# Altium schematic symbol library DDS1.SchLib: 161 symbols (part 2 of 2)
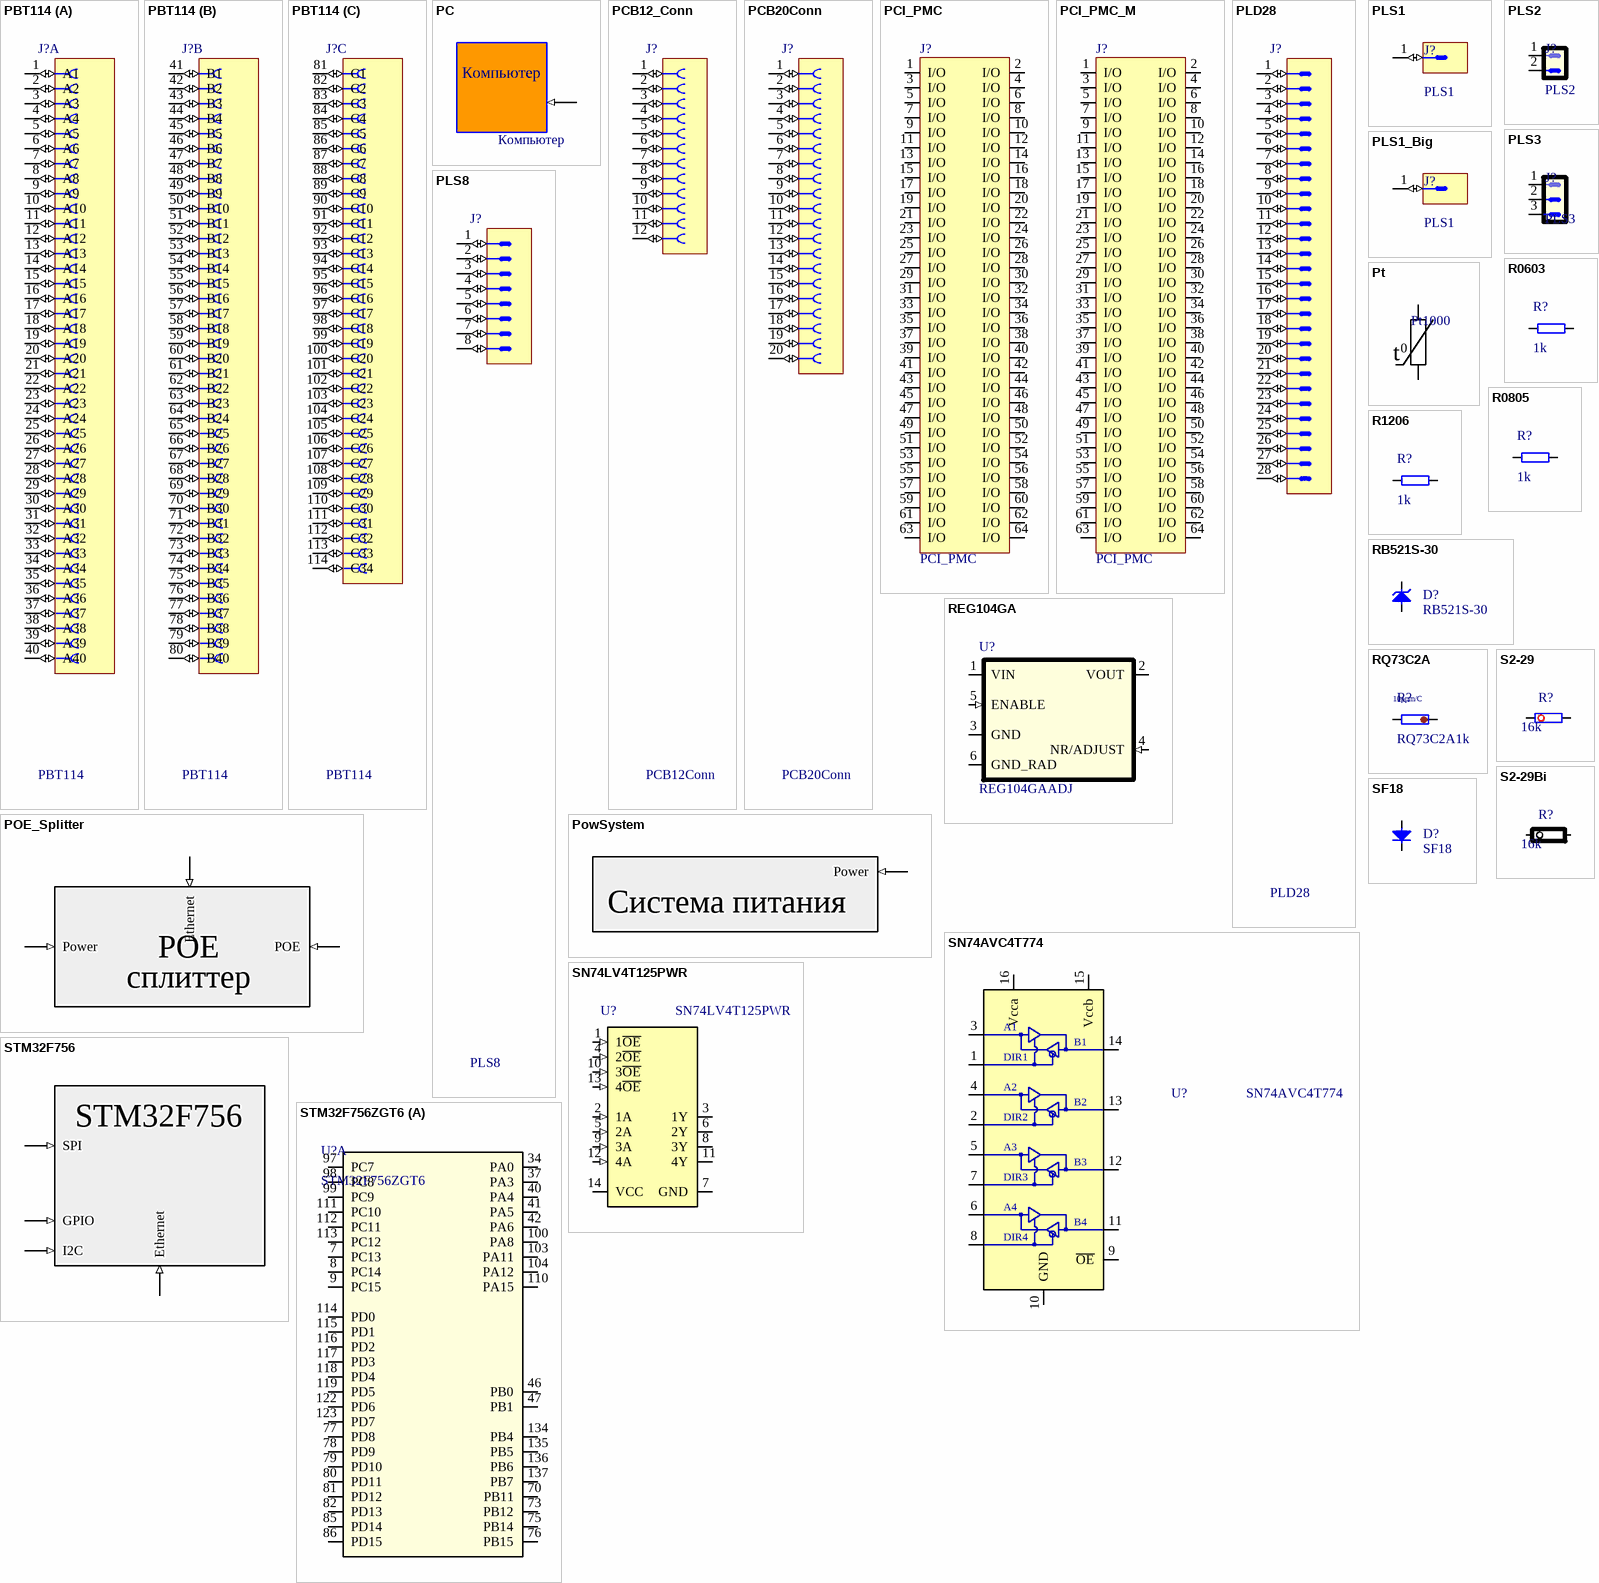
[diagram p8: symbols PBT114 to STM32F756ZGT6]

## PCI_PMC
designator J?
PCI Mezzanine Connector; IEEE 1386 Mezzanine board; Manufactuer: TE Connectivity; PartField: 120527-1; SolderOption: 2; Pkg: PMC Male (IEEE 1386); Value: PCI_PMC; Vendor: TE Connectivity
footprint TYCO_120527-1 (1mm Centerline, FH (IEEE 1386) Surface Mount, Stacking Board-to-Board Male Connectors)
pins: 1 I/O (io), 2 I/O (io), 3 I/O (io), 4 I/O (io), 5 I/O (io), 6 I/O (io), 7 I/O (io), 8 I/O (io), 9 I/O (io), 10 I/O (io), 11 I/O (io), 12 I/O (io), 13 I/O (io), 14 I/O (io), 15 I/O (io), 16 I/O (io), 17 I/O (io), 18 I/O (io), 19 I/O (io), 20 I/O (io), 21 I/O (io), 22 I/O (io), 23 I/O (io), 24 I/O (io), 25 I/O (io), 26 I/O (io), 27 I/O (io), 28 I/O (io), 29 I/O (io), 30 I/O (io), 31 I/O (io), 32 I/O (io), 33 I/O (io), 34 I/O (io), 35 I/O (io), 36 I/O (io), 37 I/O (io), 38 I/O (io), 39 I/O (io), 40 I/O (io), 41 I/O (io), 42 I/O (io), 43 I/O (io), 44 I/O (io), 45 I/O (io), 46 I/O (io), 47 I/O (io), 48 I/O (io), 49 I/O (io), 50 I/O (io), 51 I/O (io), 52 I/O (io), 53 I/O (io), 54 I/O (io), 55 I/O (io), 56 I/O (io), 57 I/O (io), 58 I/O (io), 59 I/O (io), 60 I/O (io), 61 I/O (io), 62 I/O (io), 63 I/O (io), 64 I/O (io)

## PCI_PMC_M
designator J?, comment PCI_PMC
PCI Mezzanine Connector; IEEE 1386 MainBoard; Manufactuer: TE Connectivity; PartField: 120527-1; SolderOption: 2; Pkg: PMC Male (IEEE 1386); Value: PCI_PMC; Vendor: TE Connectivity
footprint TYCO_120521-1 (1mm Centerline, FH (IEEE 1386) Surface Mount, Stacking Board-to-Board Female Connectors)
pins: 1 I/O (io), 2 I/O (io), 3 I/O (io), 4 I/O (io), 5 I/O (io), 6 I/O (io), 7 I/O (io), 8 I/O (io), 9 I/O (io), 10 I/O (io), 11 I/O (io), 12 I/O (io), 13 I/O (io), 14 I/O (io), 15 I/O (io), 16 I/O (io), 17 I/O (io), 18 I/O (io), 19 I/O (io), 20 I/O (io), 21 I/O (io), 22 I/O (io), 23 I/O (io), 24 I/O (io), 25 I/O (io), 26 I/O (io), 27 I/O (io), 28 I/O (io), 29 I/O (io), 30 I/O (io), 31 I/O (io), 32 I/O (io), 33 I/O (io), 34 I/O (io), 35 I/O (io), 36 I/O (io), 37 I/O (io), 38 I/O (io), 39 I/O (io), 40 I/O (io), 41 I/O (io), 42 I/O (io), 43 I/O (io), 44 I/O (io), 45 I/O (io), 46 I/O (io), 47 I/O (io), 48 I/O (io), 49 I/O (io), 50 I/O (io), 51 I/O (io), 52 I/O (io), 53 I/O (io), 54 I/O (io), 55 I/O (io), 56 I/O (io), 57 I/O (io), 58 I/O (io), 59 I/O (io), 60 I/O (io), 61 I/O (io), 62 I/O (io), 63 I/O (io), 64 I/O (io)

## PLD28
designator J?
Вилка  PLD 28/2.54; Vendor: Confly; SMD Solders: 0; Solder Option: RM; THD Solders: 28; Price: 20; Device: PLD28
footprint PLD28 (28 Contacts - Pitch 2.54mm - Dual Row Straight Strip Header - Insulator 1.7mm)
pins: 1 (io), 2 (io), 3 (io), 4 (io), 5 (io), 6 (io), 7 (io), 8 (io), 9 (io), 10 (io), 11 (io), 12 (io), 13 (io), 14 (io), 15 (io), 16 (io), 17 (io), 18 (io), 19 (io), 20 (io), 21 (io), 22 (io), 23 (io), 24 (io), 25 (io), 26 (io), 27 (io), 28 (io)

## PLS1
designator J?
Штырь PLS1; Vendor: Confly; SMD Solders: 0; Solder Option: RM; THD Solders: 1; Price: 1; Device: PLS1
footprint PLS1
pins: 1 (io)

## PLS1_Big
designator J?, comment PLS1
Штырь PLS1 толстый; Vendor: Confly; SMD Solders: 0; Solder Option: RM; THD Solders: 1; Price: 1; Device: PLS1
footprint PLS1_Heavy
pins: 1 (io)

## PLS2
designator J?
Vendor: Confly; SMD Solders: 0; Solder Option: RM; THD Solders: 2; Price: 1; Device: PLS2
footprint PLS2 (2 Contacts Straight Strip Header Pitch 2.54mm L=6.7mm ''Mini-Wire-Wrap'')
pins: 1 (io), 2 (io)

## PLS3
designator J?
Vendor: Confly; SMD Solders: 0; Solder Option: RM; THD Solders: 3; Price: 1; Device: PLS3
footprint PLS3 (3 Contacts - Pitch 2.54mm - Single Row Through Mount Straight Header (Post Lead = 6.35mm, Tail Lead 3.05mm, Insulator 1.52mm))
pins: 1 (io), 2 (io), 3 (io)
1 alternate drawing of the same symbol

## PLS8
designator J?
Вилка  PLS8/2.54; Vendor: Confly; SMD Solders: 0; Solder Option: RM; THD Solders: 8; Price: 20; Device: PLS8
footprint COMATEL_386.0358.1.08.440 (8 Contacts Straight Strip Header Pitch 2.54mm L=6.3mm ''Mini-Wire-Wrap'')
pins: 1 (io), 2 (io), 3 (io), 4 (io), 5 (io), 6 (io), 7 (io), 8 (io)

## POE_Splitter
designator U?, comment Eghfdktybt  (value not drawn)
Система управления измерительным комплексом
pins: 3 POE (in), 4 Ethernet (in), 4 Power (in)
text: сплиттер

## PowSystem
designator U?, comment Eghfdktybt  (value not drawn)
Система питания
pins: 4 Power (in)

## Pt
designator R?, comment Pt1000
Pt1000 Temperature Sensors; Vendor: HoneyWell; Value: 1000; Pkg: HRTS-5760-B-U-0-12; SMD Solders: 0; Solder Option: RM; Device: Pt; THD Solders: 2; Price: 16000; Name to order: HRTS-5760-B-U-0-12
footprint HRTS-5760-B-U-0-12 (he244t)
footprint HRTS-5760-B-U-0-12mini (Pt1000qwadratisch)
pins: 1, 2
text: t

## R0603
designator R?, comment 1k
Чип резистор 0603; Vendor: Vishay; SMD Solders: 2; Solder Option: RM; TC: 100ppm/C; Tolerance: 1%; Pkg: SMD0603; Pwr: 60mW; Device: Res603; Price: 2; Value: 1k
footprint RESC1608X64N (Chip Resistor, EIA 0603, Metric 1608, Body 1.6x0.8mm, IPC Medium Density)
pins: 1, 2

## R0805
designator R?, comment 1k
Чип резистор 0805; Vendor: Vishay; SMD Solders: 2; Solder Option: RM; TC: 100ppm/C; Tolerance: 1%; Pkg: SMD0805; Pwr: 125mW; Device: Res0805; Price: 2; Value: 1k
footprint SMD0805RES (Чипрезистор, 2.0x1.3mm)
pins: 1, 2

## R1206
designator R?, comment 1k
Чип резистор 1206; Vendor: Vishay; SMD Solders: 2; Solder Option: RM; TC: 100ppm/C; Tolerance: 1%; Pkg: SMD1206; Pwr: 250mW; Device: Res1206; Price: 2; Value: 1k
footprint RESC3016X65N (Chip Resistor, EIA 1206, Metric 3016, Body 3.05x1.55mm, IPC Medium Density)
pins: 1, 2

## RB521S-30
designator D?
Чип Шоттки диод; Vendor: CTK; Voltage: 30V; SMD Solders: 2; Solder Option: RM; Pkg: SOD523; Price: 5; Device: RB521S-30; Name to order: RB521S-30
footprint SODFL1608X65N (Ultra Small Outline Diode Flat Lead (SOD-523), Body; 1.2mm L X 0.8mm W X 0.65mm H, IPC Medium Density)
pins: 1 C, 2 A

## REG104GA
designator U?, comment REG104GAADJ
Positive LDO Linear stabilizer; Vendor: Texas Instruments; Value: ADJ; SMD Solders: 6; Solder Option: RM; TC: 70ppm/C; Tolerance: +-2% Max; Pkg: SOT223-6; Name to order: REG104GA-A; Vref: 1V295; Price: 1000; Device: REG104GA
footprint SOT223_6-127 (1.27mm pitch 20pin = DCQ6-M(ti))
pins: 1 VIN (power) "Vin 2.1,,16V", 2 VOUT (power) "Vout", 3 GND (power) "Groung", 4 NR/ADJUST (in), 5 ENABLE (in) "Enable  activ H", 6 GND_RAD (power) "Radiator"

## RQ73C2A
designator R?, comment RQ73C2A1k  TC: 10ppm/C
Прецизионный чип резистор 0805; Vendor: Vishay; Value: 1k; SMD Solders: 2; Solder Option: RM; Tolerance: 1%; Pkg: SMD0805; Pwr: 125mW; Price: 2; Device: RQ73C2A
footprint SMD0805RES (Чипрезистор, 2.0x1.3mm)
pins: 1, 2

## S2-29
designator R?, comment 16k
Чип резистор 1206; Vendor: CCCP; SMD Solders: 0; Solder Option: RM; TC: +-25ppm/C; Tolerance: 0..5%; Pkg: MLT-025; Pwr: 125mW; Device: S2-29; Price: 2; Value: 16k
footprint RES_VISHAY_CMF60 (Resistor, Axial, Pad spacing 13 mm - Body Lengh 8.74mm X Body Diameter 3.68mm)
pins: 1, 2

## S2-29Bi
designator R?, comment 16k
Чип резистор 1206; Vendor: CCCP; SMD Solders: 0; Solder Option: RM; TC: +-25ppm/C; Tolerance: 0..5%; Pkg: MLT-025; Pwr: 125mW; Device: S2-29; Price: 2; Value: 16k
footprint RES_VISHAY_CMF60 (Resistor, Axial, Pad spacing 13 mm - Body Lengh 8.74mm X Body Diameter 3.68mm)
pins: 1, 2

## SF18
designator D?
HV fast diode; Vendor: Shenzhen Luguang Electronic Technology; Voltage: 800; SMD Solders: 2; Solder Option: RM; Pkg: DO41; Price: 10; Device: SF18; Name to order: SF18
footprint DIOAD1397W120L700D400 (Diode, Axial; Lead Spacing 13.97mm, Lead Dia. 1.20mm, Body Length 7mm, Body Dia. 4mm)
pins: 1 C, 2 A

## SN74AVC4T774
designator U?
Двунаправленный буфер; Pkg: TSSOP16; SMD Solders: 16; Solder Option: RM; THD Solders: 0; Vendor: Texas Instruments; Voltage: 1V1.. 3.6V  I/Os are 4.6-V Tolerant; Name to order: SN74AVC4T774PW; Device: SN74AVC4T774; Price: 300
footprint TSSOP-16
pins: 1 DIR1, 2 DIR2, 3 A1, 4 A2, 5 A3, 6 A4, 7 DIR3, 8 DIR4, 9 ~{OE}, 10 GND, 11 B4, 12 B3, 13 B2, 14 B1, 15 Vccb, 16 Vcca

## SN74LV4T125PWR
designator U?
Quadruple Buffer Translator GATE With 3-State / Output CMOS Logic Level Shifter; Pkg: TSSOP14; SMD Solders: 14; Solder Option: RM; THD Solders: 0; Vendor: Texas Instruments; Voltage: 2V0.. 6V0; Device: SN74LV4T125PWR; Price: 30; Name to order: SN74LV4T125PWR
footprint SOP65P640X120-14N (SOP, 14-Leads, Body 5.1x4.5mm (max), Pitch 0.65mm, IPC Medium Density)
pins: 1 1~{OE} (in), 2 1A (in), 3 1Y (hiz), 4 2~{OE} (in), 5 2A (in), 6 2Y (hiz), 7 GND (power), 8 3Y (hiz), 9 3A (in), 10 3~{OE} (in), 11 4Y (hiz), 12 4A (in), 13 4~{OE} (in), 14 VCC (power)

## STM32F756
designator U?, comment uКонтроллер  (value not drawn)
uController
pins: 1 SPI (in), 2 GPIO (in), 3 Ethernet (in), 4 I2C (in)

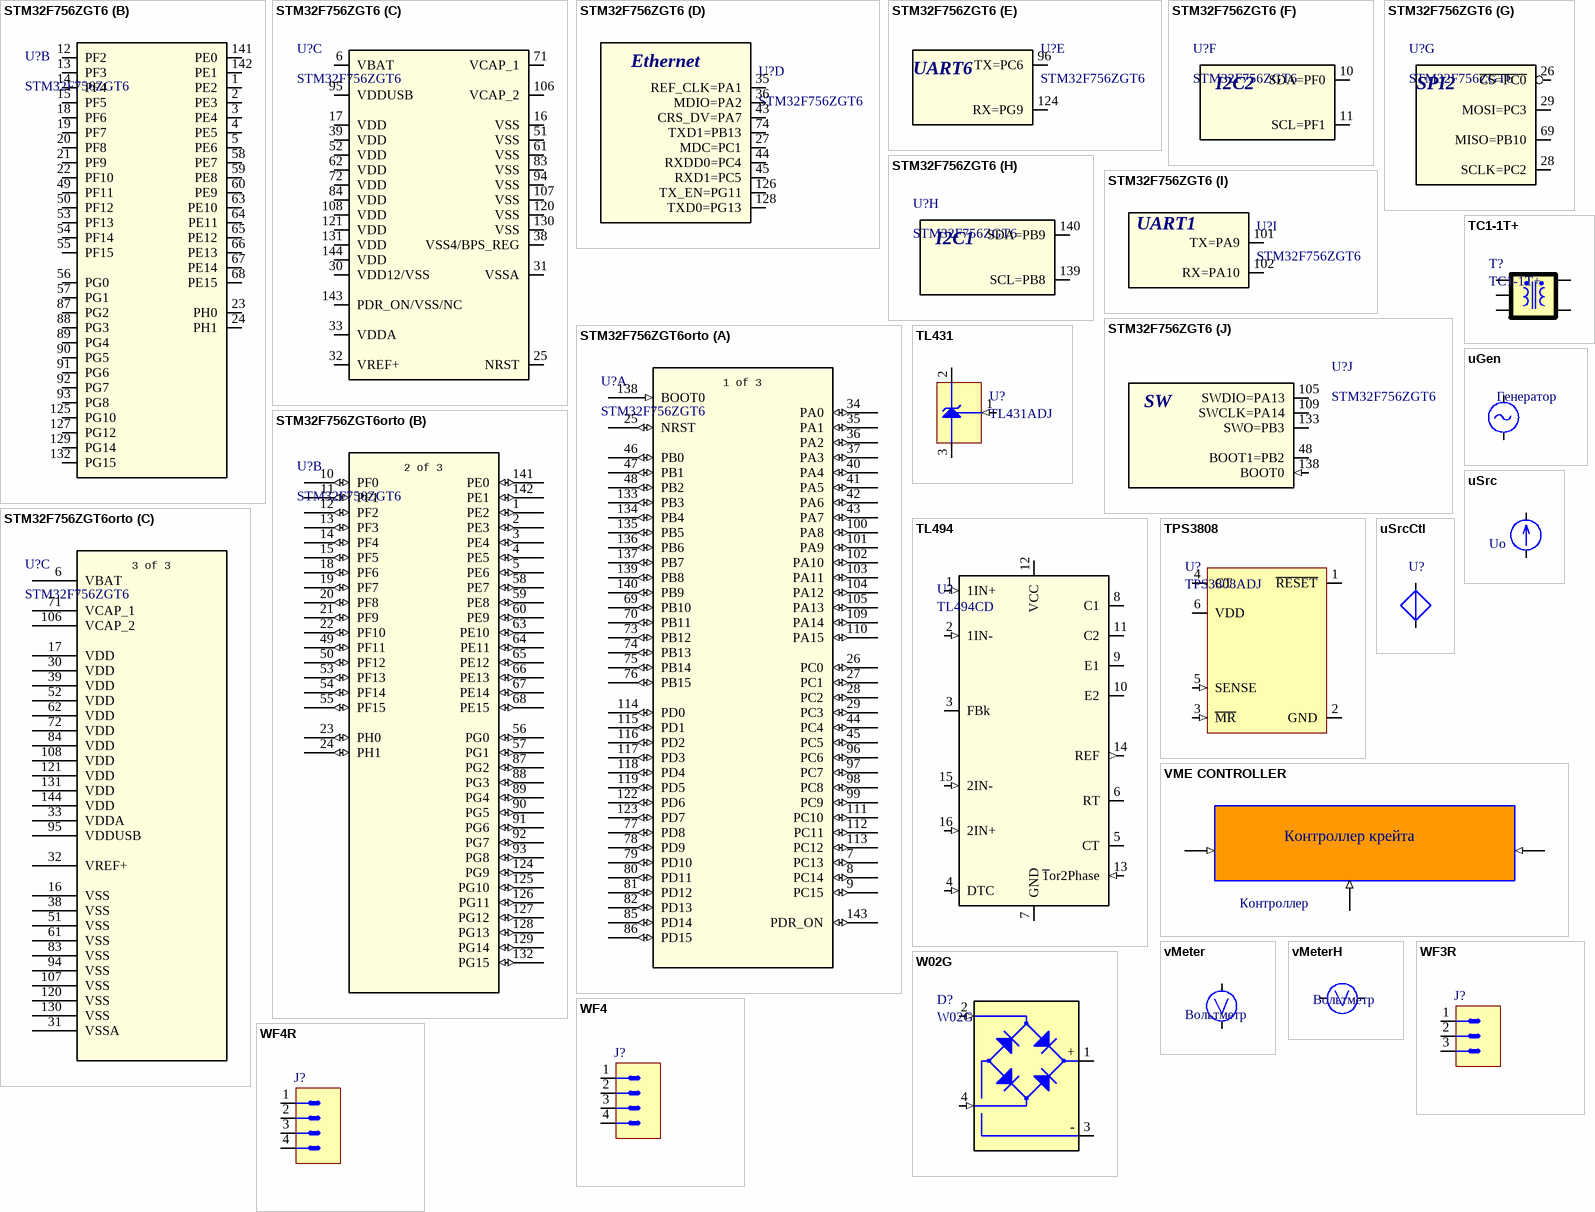
[diagram p6: symbols STM32F756ZGT6 to WF4R]

## STM32F756ZGT6
designator U?
High-performance and DSP with FPU, Arm Cortex-M7 MCU with 1 Mbyte of Flash memory, 216 MHz CPU, Art Accelerator, L1 cache, HW crypto, SDRAM, TFT; Manufacturer_Name: STMicroelectronics; SMD Solders: 144; THD Solders: 0; Pkg: LQFP144; Copyright: Copyright (C) 2025 Ultra Librarian. All rights reserved.; Manufacturer_Part_Number: STM32F756ZGT6; Datasheet: https://www.st.com/resource/en/datasheet/stm32f756bg.pdf; RefDes: RefDes; Type: Type; `: *; Price: 4000
footprint LQFP-144_STM-M
part A pins: 7 PC13 (io), 8 PC14 (io), 9 PC15 (io), 34 PA0 (io), 37 PA3 (io), 40 PA4 (io), 41 PA5 (io), 42 PA6 (io), 46 PB0 (io), 47 PB1 (io), 70 PB11 (io), 73 PB12 (io), 75 PB14 (io), 76 PB15 (io), 77 PD8 (io), 78 PD9 (io), 79 PD10 (io), 80 PD11 (io), 81 PD12 (io), 82 PD13 (io), 85 PD14 (io), 86 PD15 (io), 97 PC7 (io), 98 PC8 (io), 99 PC9 (io), 100 PA8 (io), 103 PA11 (io), 104 PA12 (io), 110 PA15 (io), 111 PC10 (io), 112 PC11 (io), 113 PC12 (io), 114 PD0 (io), 115 PD1 (io), 116 PD2 (io), 117 PD3 (io), 118 PD4 (io), 119 PD5 (io), 122 PD6 (io), 123 PD7 (io), 134 PB4 (io), 135 PB5 (io), 136 PB6 (io), 137 PB7 (io)
part B pins: 1 PE2 (io), 2 PE3 (io), 3 PE4 (io), 4 PE5 (io), 5 PE6 (io), 12 PF2 (io), 13 PF3 (io), 14 PF4 (io), 15 PF5 (io), 18 PF6 (io), 19 PF7 (io), 20 PF8 (io), 21 PF9 (io), 22 PF10 (io), 23 PH0 (io), 24 PH1 (io), 49 PF11 (io), 50 PF12 (io), 53 PF13 (io), 54 PF14 (io), 55 PF15 (io), 56 PG0 (io), 57 PG1 (io), 58 PE7 (io), 59 PE8 (io), 60 PE9 (io), 63 PE10 (io), 64 PE11 (io), 65 PE12 (io), 66 PE13 (io), 67 PE14 (io), 68 PE15 (io), 87 PG2 (io), 88 PG3 (io), 89 PG4 (io), 90 PG5 (io), 91 PG6 (io), 92 PG7 (io), 93 PG8 (io), 125 PG10 (io), 127 PG12 (io), 129 PG14 (io), 132 PG15 (io), 141 PE0 (io), 142 PE1 (io)
part C pins: 6 VBAT (power), 16 VSS (power), 17 VDD (power), 25 NRST (io), 30 VDD12/VSS (power), 31 VSSA (power), 32 VREF+ (power), 33 VDDA (power), 38 VSS4/BPS_REG (power), 39 VDD (power), 51 VSS (power), 52 VDD (power), 61 VSS (power), 62 VDD (power), 71 VCAP_1 (power), 72 VDD (power), 83 VSS (power), 84 VDD (power), 94 VSS (power), 95 VDDUSB (power), 106 VCAP_2 (power), 107 VSS (power), 108 VDD (power), 120 VSS (power), 121 VDD (power), 130 VSS (power), 131 VDD (power), 143 PDR_ON/VSS/NC (io), 144 VDD (power)
part D pins: 27 MDC=PC1 (io), 35 REF_CLK=PA1 (io), 36 MDIO=PA2 (io), 43 CRS_DV=PA7 (io), 44 RXDD0=PC4 (io), 45 RXD1=PC5 (io), 74 TXD1=PB13 (io), 126 TX_EN=PG11 (io), 128 TXD0=PG13 (io)
part E pins: 96 TX=PC6 (io), 124 RX=PG9 (io)
part F pins: 10 SDA=PF0 (io), 11 SCL=PF1 (io)
part G pins: 26 ~{CS=PC0} (io), 28 SCLK=PC2 (io), 29 MOSI=PC3 (io), 69 MISO=PB10 (io)
part H pins: 139 SCL=PB8 (io), 140 SDA=PB9 (io)
part I pins: 101 TX=PA9 (io), 102 RX=PA10 (io)
part J pins: 48 BOOT1=PB2 (io), 105 SWDIO=PA13 (io), 109 SWCLK=PA14 (io), 133 SWO=PB3 (io), 138 BOOT0 (in)
part D text: Ethernet
part E text: UART6
part F text: I2C2
part G text: SPI2
part H text: I2C1
part I text: UART1
part J text: SW

## STM32F756ZGT6orto
designator U?, comment STM32F756ZGT6
High-performance and DSP with FPU, Arm Cortex-M7 MCU with 1 Mbyte of Flash memory, 216 MHz CPU, Art Accelerator, L1 cache, HW crypto, SDRAM, TFT; Manufacturer_Name: STMicroelectronics; SMD Solders: 144; THD Solders: 0; Pkg: LQFP144; Copyright: Copyright (C) 2025 Ultra Librarian. All rights reserved.; Manufacturer_Part_Number: STM32F756ZGT6; Datasheet: https://www.st.com/resource/en/datasheet/stm32f756bg.pdf; RefDes: RefDes; Type: Type; `: *; Price: 4000
footprint LQFP-144_STM-M
part A pins: 7 PC13 (io), 8 PC14 (io), 9 PC15 (io), 25 NRST (io), 26 PC0 (io), 27 PC1 (io), 28 PC2 (io), 29 PC3 (io), 34 PA0 (io), 35 PA1 (io), 36 PA2 (io), 37 PA3 (io), 40 PA4 (io), 41 PA5 (io), 42 PA6 (io), 43 PA7 (io), 44 PC4 (io), 45 PC5 (io), 46 PB0 (io), 47 PB1 (io), 48 PB2 (io), 69 PB10 (io), 70 PB11 (io), 73 PB12 (io), 74 PB13 (io), 75 PB14 (io), 76 PB15 (io), 77 PD8 (io), 78 PD9 (io), 79 PD10 (io), 80 PD11 (io), 81 PD12 (io), 82 PD13 (io), 85 PD14 (io), 86 PD15 (io), 96 PC6 (io), 97 PC7 (io), 98 PC8 (io), 99 PC9 (io), 100 PA8 (io), 101 PA9 (io), 102 PA10 (io), 103 PA11 (io), 104 PA12 (io), 105 PA13 (io), 109 PA14 (io), 110 PA15 (io), 111 PC10 (io), 112 PC11 (io), 113 PC12 (io), 114 PD0 (io), 115 PD1 (io), 116 PD2 (io), 117 PD3 (io), 118 PD4 (io), 119 PD5 (io), 122 PD6 (io), 123 PD7 (io), 133 PB3 (io), 134 PB4 (io), 135 PB5 (io), 136 PB6 (io), 137 PB7 (io), 138 BOOT0 (in), 139 PB8 (io), 140 PB9 (io), 143 PDR_ON (io)
part B pins: 1 PE2 (io), 2 PE3 (io), 3 PE4 (io), 4 PE5 (io), 5 PE6 (io), 10 PF0 (io), 11 PF1 (io), 12 PF2 (io), 13 PF3 (io), 14 PF4 (io), 15 PF5 (io), 18 PF6 (io), 19 PF7 (io), 20 PF8 (io), 21 PF9 (io), 22 PF10 (io), 23 PH0 (io), 24 PH1 (io), 49 PF11 (io), 50 PF12 (io), 53 PF13 (io), 54 PF14 (io), 55 PF15 (io), 56 PG0 (io), 57 PG1 (io), 58 PE7 (io), 59 PE8 (io), 60 PE9 (io), 63 PE10 (io), 64 PE11 (io), 65 PE12 (io), 66 PE13 (io), 67 PE14 (io), 68 PE15 (io), 87 PG2 (io), 88 PG3 (io), 89 PG4 (io), 90 PG5 (io), 91 PG6 (io), 92 PG7 (io), 93 PG8 (io), 124 PG9 (io), 125 PG10 (io), 126 PG11 (io), 127 PG12 (io), 128 PG13 (io), 129 PG14 (io), 132 PG15 (io), 141 PE0 (io), 142 PE1 (io)
part C pins: 6 VBAT (power), 16 VSS (power), 17 VDD (power), 30 VDD (power), 31 VSSA (power), 32 VREF+ (power), 33 VDDA (power), 38 VSS (power), 39 VDD (power), 51 VSS (power), 52 VDD (power), 61 VSS (power), 62 VDD (power), 71 VCAP_1 (power), 72 VDD (power), 83 VSS (power), 84 VDD (power), 94 VSS (power), 95 VDDUSB (power), 106 VCAP_2 (power), 107 VSS (power), 108 VDD (power), 120 VSS (power), 121 VDD (power), 130 VSS (power), 131 VDD (power), 144 VDD (power)
part A text: 1 of 3
part B text: 2 of 3
part C text: 3 of 3

## TC1-1T+
designator T?
RF Transformer; 50Ω; 1.5 to 500 MHz; Impedance Ratio=1; Vendor: Texas Instruments; Value: 1:1; Pkg: AT1521; SMD Solders: 5; Solder Option: RM; THD Solders: 0; Price: 1000; Device: TC1-1T+; Name to order: TC1-1T+
footprint XFMR_MINI-CIRCUITS_AT224 (MINI-CIRCUITS RF Transformer, Case AT224 - Body 3.81X3.81mm)
pins: 1, 2, 3, 4, 6

## TL431
designator U?, comment TL431ADJ
Shunt reference; Vendor: Analog Devoces; Value: ADJ; Pkg: SOT23-5; SMD Solders: 5; Solder Option: RM; Device: TL431; Price: 100
footprint SOT95P229X119-3N (SOT23 3-Leads, 0.95mm pitch; 3 pin, 1.296mm W X 2.858mm L X 1.194mm H body, IPC Medium Density)
pins: 1 REF (in), 2 Cathode, 3 Anode

## TL494
designator U?, comment TL494CD
PWM Controller; Vendor: Texas Instruments; Pkg: SOIC16; SMD Solders: 16; Solder Option: RM; Device: TL494; THD Solders: 0; Name to order: TL494CD, TL494ID; Current: 8mA; PkgCode: CD; Price: 200; thVoltage: -
footprint SOIC127P780X200-16N (SOIC, 1.27mm Pitch; 16 Pin, 5.30mm W X 10.20mm L X 2.00mm H body, IPC Medium Density)
pins: 1 1IN+ (in), 2 1IN- (in), 3 FBk, 4 DTC (in), 5 CT, 6 RT, 7 GND (power), 8 C1 (oc), 9 E1 (oe), 10 E2 (oe), 11 C2 (oc), 12 VCC (power), 13 ~{1}or2Phase (in), 14 REF (out), 15 2IN- (in), 16 2IN+ (in)

## TPS3808
designator U?, comment TPS3808ADJ
Supervisory Circuit. Low-Quiescent-Current, Programmable-Delay; Vendor: Texas Instruments; Value: ADJ; Pkg: SOT23-6; SMD Solders: 6; Solder Option: RM; THD Solders: 0; Name to order: TPS3808G01DBV; Current: 6uA; thVoltage: 400mV; Price: 200; Device: TPS3808
footprint SOT95P270X145-6N (SOT, 0.95mm Pitch; 6 Pin,1.55mm W X 2.90mm L X 1.45mm H body, IPC Medium Density)
pins: 1 ~{RESET} (oc), 2 GND (power), 3 ~{MR} (in), 4 CT, 5 SENSE (in), 6 VDD (power)

## uGen
designator G?, comment Генератор
Vendor: Inchange; Pkg: TO247; SMD Solders: 0; Solder Option: RM; Device: 2SK1358; THD Solders: 3; Voltage: 900V; Value: Uo; Price: 500; Name to order: 2SK1358
footprint CAPC1206
pins: 1 minus, 2 plus

## uSrc
designator G?, comment Uo
Источник тока; Vendor: Inchange; Pkg: TO247; SMD Solders: 0; Solder Option: RM; Device: 2SK1358; THD Solders: 3; Voltage: 900V; Price: 500; Name to order: 2SK1358; Value: Uo
footprint CAPC1206
pins: 1 minus, 2 plus

## uSrcCtl
designator U?, comment 1V  (value not drawn)
Управляемый источник напряжения; Vendor: Inchange; Pkg: TO247; SMD Solders: 0; Solder Option: RM; Device: 2SK1358; THD Solders: 3; Voltage: 900V; Price: 500; Name to order: 2SK1358; Value: 1V
footprint CAPC1206
pins: 1 minus, 2 plus

## VME CONTROLLER
designator U?, comment Контроллер
Контроллер крейта
pins: 1 S3B (in), 2 S3B (in), 3 S3B (in)

## vMeter
designator V?, comment Вольтметр
Вольтметр вертикальный; Vendor: Inchange; Pkg: TO247; SMD Solders: 0; Solder Option: RM; Device: 2SK1358; THD Solders: 3; Voltage: 900V; Value: Uo; Price: 500; Name to order: 2SK1358
footprint CAPC1206
pins: 1 minus, 2 plus

## vMeterH
designator V?, comment Вольтметр
Вольтметр горизонтальный; Vendor: Inchange; Pkg: TO247; SMD Solders: 0; Solder Option: RM; Device: 2SK1358; THD Solders: 3; Voltage: 900V; Value: Uo; Price: 500; Name to order: 2SK1358
footprint CAPC1206
pins: 1 minus, 2 plus

## W02G
designator D?
Diode Bridge Rectifier; Vendor: multicomp; SMD Solders: 0; Solder Option: RM; THD Solders: 4; Voltage: 200V; Pkg: W02G; Price: 20; Device: W02G; Name to order: W02G
footprint RECTRON_RB15 (Bridge Rectifier, Body 9.1mm diam. x 3.8mm H, RECTRON Case Type RB15)
pins: 1 + (power), 2 AC (in), 3 - (power), 4 AC (in)

## WF3R
designator J?, comment WF-3R
Вилка  WF3 угловая; Vendor: Confly; SMD Solders: 0; Solder Option: RM; THD Solders: 3; Price: 20; Device: WF-3R; Name to order: WF-3R
footprint MOLEX_22-05-7038 (2.54mm (.100") Pitch KK® Wire-To-Board Header, Right Angle, With Friction Lock, 3 Circuits)
pins: 1 (io), 2 (io), 3 (io)

## WF4
designator J?, comment WF-4
Вилка  WF4; Vendor: Confly; SMD Solders: 0; Solder Option: RM; THD Solders: 4; Name to order: WF-4 (DS1070-4 M); Price: 20; Device: WF-4
footprint WF4_2_54 (2.54mm (.100") Pitch KK® Header, Single Row, Vertical, 4 Circuits)
pins: 1 (io), 2 (io), 3 (io), 4 (io)

## WF4R
designator J?, comment WF-4R
Вилка  WF4 угловая; Vendor: Confly; SMD Solders: 0; Solder Option: RM; THD Solders: 4; Price: 20; Device: WF-4R; Name to order: WF-4R
footprint MOLEX_WF4-angle (2.54mm (.100") Pitch KK® Wire-To-Board Header, Right Angle, With Friction Lock, 2 Circuits)
pins: 1 (io), 2 (io), 3 (io), 4 (io)

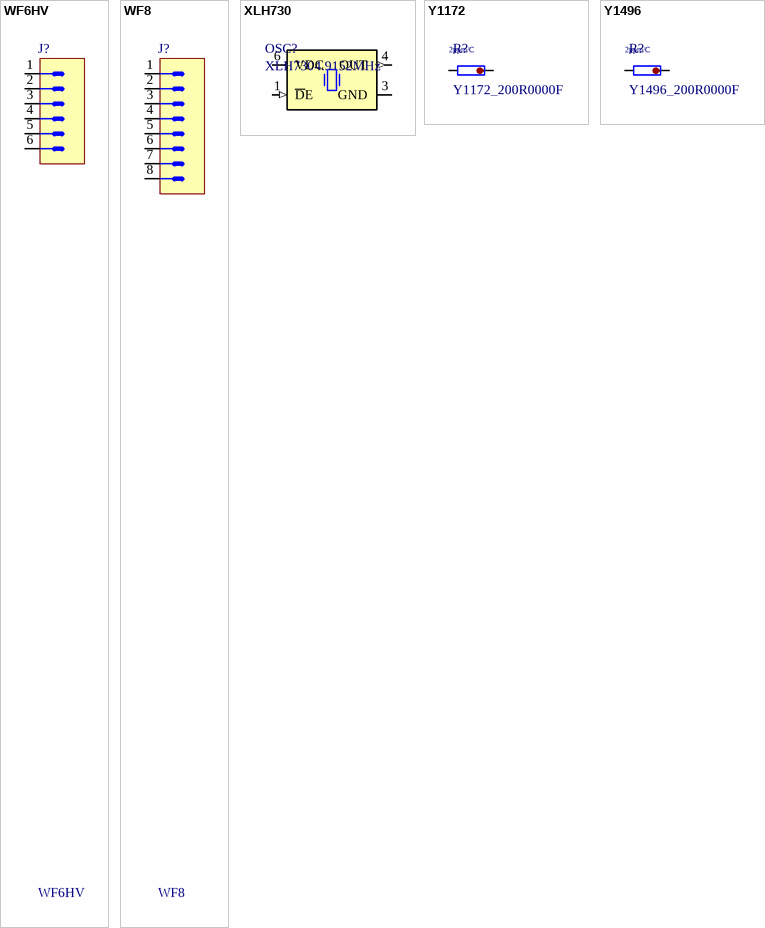
[diagram p7: symbols WF6HV to Y1496]

## WF6HV
designator J?
Вилка  WF6 HV; Vendor: Confly; SMD Solders: 0; Solder Option: RM; THD Solders: 6; Price: 20; Device: WF6HV
footprint MOLEX_WF6HV (2.54mm (.100") Pitch KK® Header, Single Row, Vertical, 8 Circuits)
pins: 1 (io), 2 (io), 3 (io), 4 (io), 5 (io), 6 (io)

## WF8
designator J?
Вилка  WF8; Vendor: Confly; SMD Solders: 0; Solder Option: RM; THD Solders: 8; Price: 20; Device: WF8
footprint MOLEX_22-27-2081 (2.54mm (.100") Pitch KK® Header, Single Row, Vertical, 8 Circuits)
pins: 1 (io), 2 (io), 3 (io), 4 (io), 5 (io), 6 (io), 7 (io), 8 (io)

## XLH730
designator OSC?, comment XLH7304.9152MHz
Генератор кварцевый; Vendor: Renesas; Pkg: 7x5mm; SMD Solders: 2; Solder Option: RM; Device: XLH730; THD Solders: 0; Name to order: XLH730004.915200I; Value: 4.9152MHz; Price: 400; Current: 0
footprint OSC_PERICOM_FRETHE025 (SMD Oscillator, side convave, 6 pins, 5.00x7.00mm)
pins: 1 ~{D}E (in) "Pull Up or left open to work. GND-Out to HiZ", 3 GND (power), 4 OUT (out), 6 VDC (power)

## Y1172
designator R?, comment Y1172_200R0000F  TC: 2ppm/C
Прецизионный чип резистор 0805; Vendor: Vishay; SMD Solders: 2; Solder Option: RM; Tolerance: 1%; Pkg: SMD0805; Pwr: 125mW; Device: Y1172; Name to order: Y1172200R0000xxx; Price: 2; Value: 200R0000F
footprint SMD0805RES (Чипрезистор, 2.0x1.3mm)
pins: 1, 2

## Y1496
designator R?, comment Y1496_200R0000F  TC: 2ppm/C
Прецизионный чип резистор 1206; Vendor: Vishay; SMD Solders: 2; Solder Option: RM; Tolerance: 1%; Pkg: SMD1206; Pwr: 125mW; Device: Y1496; Name to order: Y1172200R0000xxx; Price: 2; Value: 200R0000F
footprint RESC3016X65N (Chip Resistor, EIA 1206, Metric 3016, Body 3.05x1.55mm, IPC Medium Density)
pins: 1, 2